# Altium footprint library Package_QFP.PcbLib: 99 footprints (part 6 of 7)
Each footprint in its own frame and in the unit in brackets; x right, y up, seen from the top. Pads: shape width x height; smd on the part's side, far side on the other; paste and mask are expansions set on the pad; w line width, h text height; cw(c..) or ccw(c..) is an arc to the next point about the centre after c.
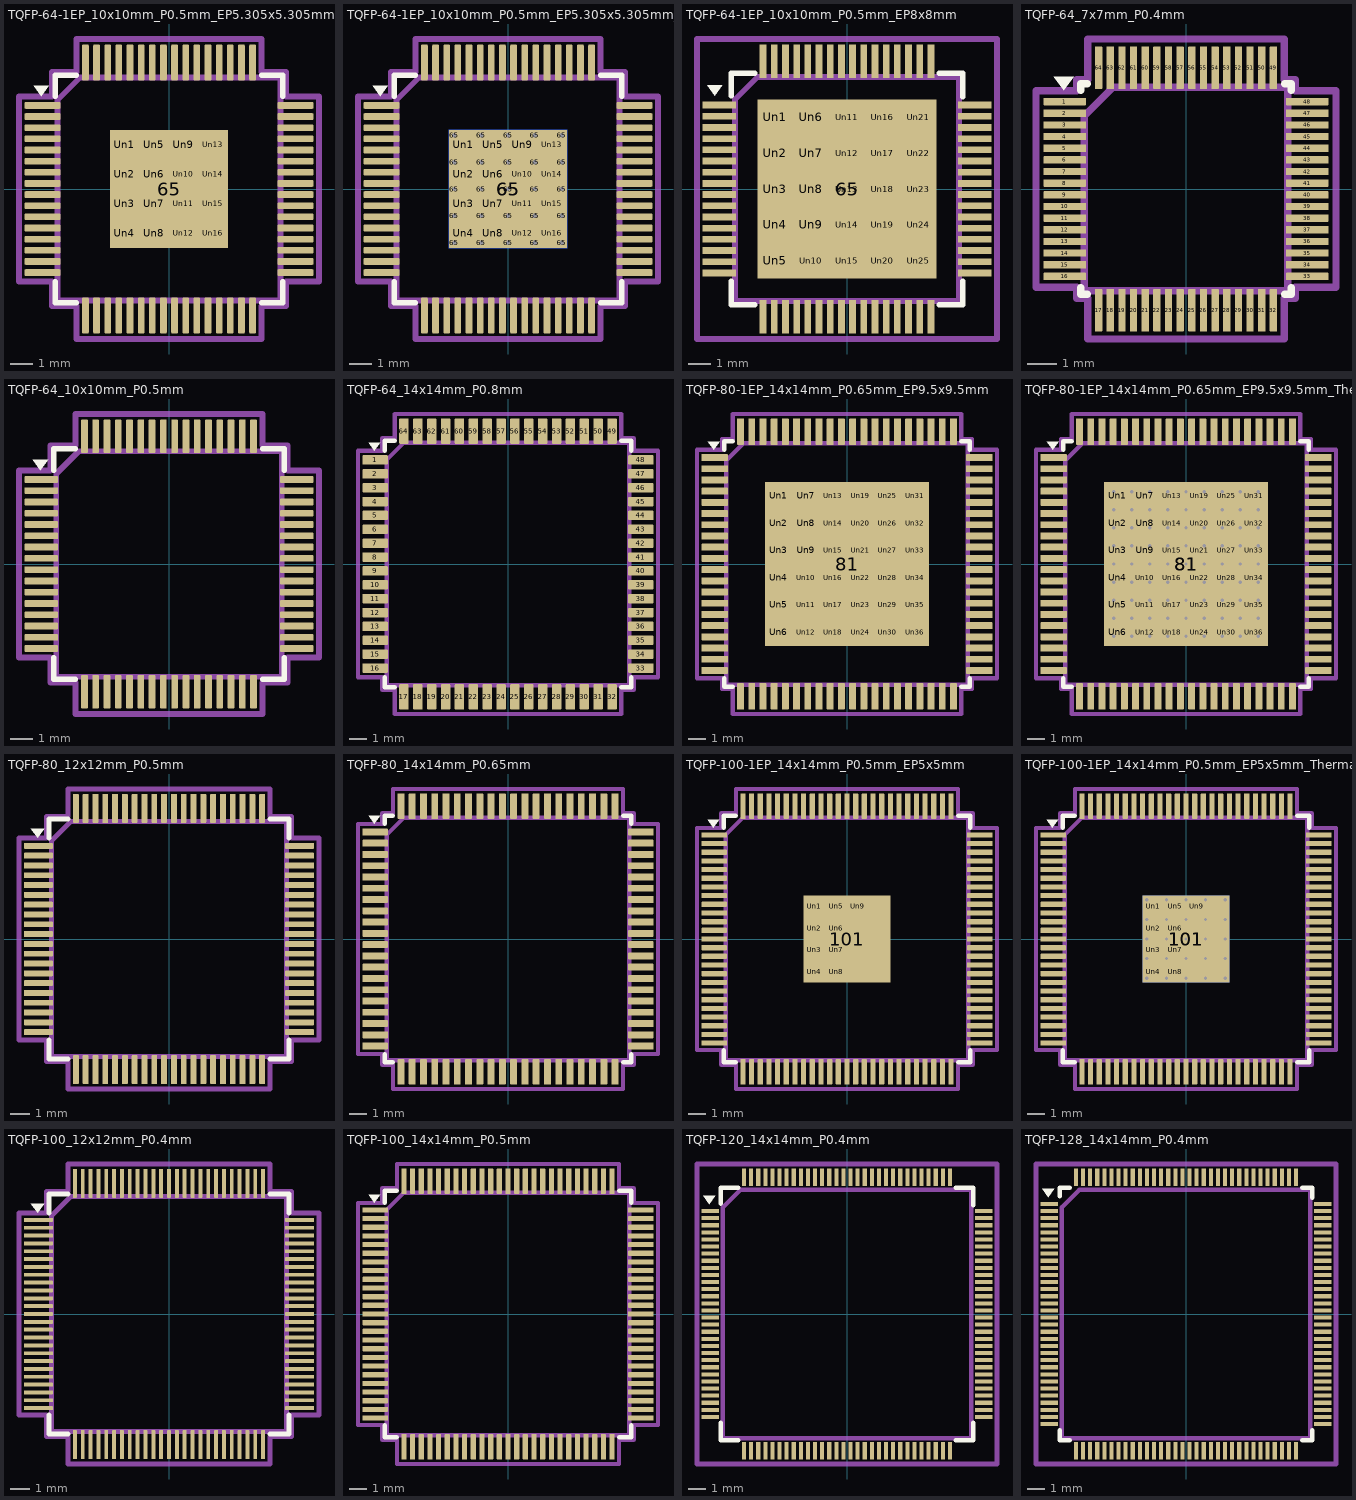
[diagram p5: the footprints below, top view; thin cyan lines are the x and y axes]

## TQFP-64-1EP_10x10mm_P0.5mm_EP5.305x5.305mm [mm]
pads (81):
  rrect25% 1.6x0.3 smd: 1(-5.675,3.75) 2(-5.675,3.25) 3(-5.675,2.75) 4(-5.675,2.25) 5(-5.675,1.75) 6(-5.675,1.25) 7(-5.675,0.75) 8(-5.675,0.25) 9(-5.675,-0.25) 10(-5.675,-0.75) 11(-5.675,-1.25) 12(-5.675,-1.75) 13(-5.675,-2.25) 14(-5.675,-2.75) 15(-5.675,-3.25) 16(-5.675,-3.75) 33(5.675,-3.75) 34(5.675,-3.25) 35(5.675,-2.75) 36(5.675,-2.25) 37(5.675,-1.75) 38(5.675,-1.25) 39(5.675,-0.75) 40(5.675,-0.25) 41(5.675,0.25) 42(5.675,0.75) 43(5.675,1.25) 44(5.675,1.75) 45(5.675,2.25) 46(5.675,2.75) 47(5.675,3.25) 48(5.675,3.75)
  rrect25% 0.3x1.6 smd: 17(-3.75,-5.675) 18(-3.25,-5.675) 19(-2.75,-5.675) 20(-2.25,-5.675) 21(-1.75,-5.675) 22(-1.25,-5.675) 23(-0.75,-5.675) 24(-0.25,-5.675) 25(0.25,-5.675) 26(0.75,-5.675) 27(1.25,-5.675) 28(1.75,-5.675) 29(2.25,-5.675) 30(2.75,-5.675) 31(3.25,-5.675) 32(3.75,-5.675) 49(3.75,5.675) 50(3.25,5.675) 51(2.75,5.675) 52(2.25,5.675) 53(1.75,5.675) 54(1.25,5.675) 55(0.75,5.675) 56(0.25,5.675) 57(-0.25,5.675) 58(-0.75,5.675) 59(-1.25,5.675) 60(-1.75,5.675) 61(-2.25,5.675) 62(-2.75,5.675) 63(-3.25,5.675) 64(-3.75,5.675)
  rect 5.305x5.305 smd: 65(0,0)
  rrect23% 1.07x1.07 on Top Paste: Un1(-1.995,1.995) Un2(-1.995,0.665) Un3(-1.995,-0.665) Un4(-1.995,-1.995) Un5(-0.665,1.995) Un6(-0.665,0.665) Un7(-0.665,-0.665) Un8(-0.665,-1.995) Un9(0.665,1.995) Un10(0.665,0.665) Un11(0.665,-0.665) Un12(0.665,-1.995) Un13(1.995,1.995) Un14(1.995,0.665) Un15(1.995,-0.665) Un16(1.995,-1.995)
F.SilkS:
  region: -5.737,4.16 -6.078,4.63 -5.397,4.63
  lines w0.254: -5.11,-4.16 -5.11,-5.11 -4.16,-5.11 ; -5.11,4.16 -5.11,5.11 -4.16,5.11 ; 4.16,-5.11 5.11,-5.11 5.11,-4.16 ; 4.16,5.11 5.11,5.11 5.11,4.16
Top Assembly:
  lines w0.254: -5,-5 5,-5 5,5 -4,5 -5,4 -5,-5
  text "'.Designator'" at -4.047,-0.84 h1
Top Courtyard:
  lines w0.254: -6.73,-4.15 -5.25,-4.15 -5.25,-5.25 -4.15,-5.25 -4.15,-6.73 4.15,-6.73 4.15,-5.25 5.25,-5.25 5.25,-4.15 6.73,-4.15 6.73,4.15 5.25,4.15 5.25,5.25 4.15,5.25 4.15,6.73 -4.15,6.73 -4.15,5.25 -5.25,5.25 -5.25,4.15 -6.73,4.15 -6.73,-4.15
Top Designator:
  text ".Designator" at -7.618,-0.508 h1.52

## TQFP-64-1EP_10x10mm_P0.5mm_EP5.305x5.305mm_ThermalVias [mm]
pads (107):
  rrect25% 1.6x0.3 smd: 1(-5.675,3.75) 2(-5.675,3.25) 3(-5.675,2.75) 4(-5.675,2.25) 5(-5.675,1.75) 6(-5.675,1.25) 7(-5.675,0.75) 8(-5.675,0.25) 9(-5.675,-0.25) 10(-5.675,-0.75) 11(-5.675,-1.25) 12(-5.675,-1.75) 13(-5.675,-2.25) 14(-5.675,-2.75) 15(-5.675,-3.25) 16(-5.675,-3.75) 33(5.675,-3.75) 34(5.675,-3.25) 35(5.675,-2.75) 36(5.675,-2.25) 37(5.675,-1.75) 38(5.675,-1.25) 39(5.675,-0.75) 40(5.675,-0.25) 41(5.675,0.25) 42(5.675,0.75) 43(5.675,1.25) 44(5.675,1.75) 45(5.675,2.25) 46(5.675,2.75) 47(5.675,3.25) 48(5.675,3.75)
  rrect25% 0.3x1.6 smd: 17(-3.75,-5.675) 18(-3.25,-5.675) 19(-2.75,-5.675) 20(-2.25,-5.675) 21(-1.75,-5.675) 22(-1.25,-5.675) 23(-0.75,-5.675) 24(-0.25,-5.675) 25(0.25,-5.675) 26(0.75,-5.675) 27(1.25,-5.675) 28(1.75,-5.675) 29(2.25,-5.675) 30(2.75,-5.675) 31(3.25,-5.675) 32(3.75,-5.675) 49(3.75,5.675) 50(3.25,5.675) 51(2.75,5.675) 52(2.25,5.675) 53(1.75,5.675) 54(1.25,5.675) 55(0.75,5.675) 56(0.25,5.675) 57(-0.25,5.675) 58(-0.75,5.675) 59(-1.25,5.675) 60(-1.75,5.675) 61(-2.25,5.675) 62(-2.75,5.675) 63(-3.25,5.675) 64(-3.75,5.675)
  round 0.5 hole 0.2: 65(-2.402,-2.402) 65(-2.402,-1.201) 65(-2.402,0) 65(-2.402,1.201) 65(-2.402,2.402) 65(-1.201,-2.402) 65(-1.201,-1.201) 65(-1.201,0) 65(-1.201,1.201) 65(-1.201,2.402) 65(0,-2.402) 65(0,-1.201) 65(0,0) 65(0,1.201) 65(0,2.402) 65(1.201,-2.402) 65(1.201,-1.201) 65(1.201,0) 65(1.201,1.201) 65(1.201,2.402) 65(2.402,-2.402) 65(2.402,-1.201) 65(2.402,0) 65(2.402,1.201) 65(2.402,2.402)
  rect 5.305x5.305 smd: 65(0,0)
  rect 5.305x5.305 smd far side: 65(0,0)
  rrect23% 1.07x1.07 on Top Paste: Un1(-1.995,1.995) Un2(-1.995,0.665) Un3(-1.995,-0.665) Un4(-1.995,-1.995) Un5(-0.665,1.995) Un6(-0.665,0.665) Un7(-0.665,-0.665) Un8(-0.665,-1.995) Un9(0.665,1.995) Un10(0.665,0.665) Un11(0.665,-0.665) Un12(0.665,-1.995) Un13(1.995,1.995) Un14(1.995,0.665) Un15(1.995,-0.665) Un16(1.995,-1.995)
F.SilkS:
  region: -5.737,4.16 -6.078,4.63 -5.397,4.63
  lines w0.254: -5.11,-4.16 -5.11,-5.11 -4.16,-5.11 ; -5.11,4.16 -5.11,5.11 -4.16,5.11 ; 4.16,-5.11 5.11,-5.11 5.11,-4.16 ; 4.16,5.11 5.11,5.11 5.11,4.16
Top Assembly:
  lines w0.254: -5,-5 5,-5 5,5 -4,5 -5,4 -5,-5
  text "'.Designator'" at -4.047,-0.84 h1
Top Courtyard:
  lines w0.254: -6.73,-4.15 -5.25,-4.15 -5.25,-5.25 -4.15,-5.25 -4.15,-6.73 4.15,-6.73 4.15,-5.25 5.25,-5.25 5.25,-4.15 6.73,-4.15 6.73,4.15 5.25,4.15 5.25,5.25 4.15,5.25 4.15,6.73 -4.15,6.73 -4.15,5.25 -5.25,5.25 -5.25,4.15 -6.73,4.15 -6.73,-4.15
Top Designator:
  text ".Designator" at -7.618,-0.508 h1.52

## TQFP-64-1EP_10x10mm_P0.5mm_EP8x8mm [mm]
pads (90):
  rect 1.5x0.3 smd: 1(-5.7,3.75) 2(-5.7,3.25) 3(-5.7,2.75) 4(-5.7,2.25) 5(-5.7,1.75) 6(-5.7,1.25) 7(-5.7,0.75) 8(-5.7,0.25) 9(-5.7,-0.25) 10(-5.7,-0.75) 11(-5.7,-1.25) 12(-5.7,-1.75) 13(-5.7,-2.25) 14(-5.7,-2.75) 15(-5.7,-3.25) 16(-5.7,-3.75) 33(5.7,-3.75) 34(5.7,-3.25) 35(5.7,-2.75) 36(5.7,-2.25) 37(5.7,-1.75) 38(5.7,-1.25) 39(5.7,-0.75) 40(5.7,-0.25) 41(5.7,0.25) 42(5.7,0.75) 43(5.7,1.25) 44(5.7,1.75) 45(5.7,2.25) 46(5.7,2.75) 47(5.7,3.25) 48(5.7,3.75)
  rect 0.3x1.5 smd: 17(-3.75,-5.7) 18(-3.25,-5.7) 19(-2.75,-5.7) 20(-2.25,-5.7) 21(-1.75,-5.7) 22(-1.25,-5.7) 23(-0.75,-5.7) 24(-0.25,-5.7) 25(0.25,-5.7) 26(0.75,-5.7) 27(1.25,-5.7) 28(1.75,-5.7) 29(2.25,-5.7) 30(2.75,-5.7) 31(3.25,-5.7) 32(3.75,-5.7) 49(3.75,5.7) 50(3.25,5.7) 51(2.75,5.7) 52(2.25,5.7) 53(1.75,5.7) 54(1.25,5.7) 55(0.75,5.7) 56(0.25,5.7) 57(-0.25,5.7) 58(-0.75,5.7) 59(-1.25,5.7) 60(-1.75,5.7) 61(-2.25,5.7) 62(-2.75,5.7) 63(-3.25,5.7) 64(-3.75,5.7)
  rect 8x8 smd: 65(0,0)
  rect 1.24x1.24 on Top Paste: Un1(-3.2,3.2) Un2(-3.2,1.6) Un3(-3.2,0) Un4(-3.2,-1.6) Un5(-3.2,-3.2) Un6(-1.6,3.2) Un7(-1.6,1.6) Un8(-1.6,0) Un9(-1.6,-1.6) Un10(-1.6,-3.2) Un11(0,3.2) Un12(0,1.6) Un13(0,0) Un14(0,-1.6) Un15(0,-3.2) Un16(1.6,3.2) Un17(1.6,1.6) Un18(1.6,0) Un19(1.6,-1.6) Un20(1.6,-3.2) Un21(3.2,3.2) Un22(3.2,1.6) Un23(3.2,0) Un24(3.2,-1.6) Un25(3.2,-3.2)
F.SilkS:
  region: -5.91,4.16 -6.25,4.63 -5.57,4.63
  lines w0.254: -5.175,-4.125 -5.175,-5.175 -4.125,-5.175 ; -5.175,4.16 -5.175,5.175 -4.125,5.175 ; 4.125,-5.175 5.175,-5.175 5.175,-4.125 ; 4.125,5.175 5.175,5.175 5.175,4.125
Top Assembly:
  lines w0.254: -5,-5 5,-5 5,5 -4,5 -5,4 -5,-5
  text "'.Designator'" at -4.047,-0.84 h1
Top Courtyard:
  lines w0.254: -6.7,-6.7 6.7,-6.7 6.7,6.7 -6.7,6.7 -6.7,-6.7
Top Designator:
  text ".Designator" at -7.618,-0.508 h1.52

## TQFP-64_7x7mm_P0.4mm [mm]
pads (64):
  rrect25% 1.475x0.25 smd: 1(-4.163,3) 2(-4.163,2.6) 3(-4.163,2.2) 4(-4.163,1.8) 5(-4.163,1.4) 6(-4.163,1) 7(-4.163,0.6) 8(-4.163,0.2) 9(-4.163,-0.2) 10(-4.163,-0.6) 11(-4.163,-1) 12(-4.163,-1.4) 13(-4.163,-1.8) 14(-4.163,-2.2) 15(-4.163,-2.6) 16(-4.163,-3) 33(4.163,-3) 34(4.163,-2.6) 35(4.163,-2.2) 36(4.163,-1.8) 37(4.163,-1.4) 38(4.163,-1) 39(4.163,-0.6) 40(4.163,-0.2) 41(4.163,0.2) 42(4.163,0.6) 43(4.163,1) 44(4.163,1.4) 45(4.163,1.8) 46(4.163,2.2) 47(4.163,2.6) 48(4.163,3)
  rrect25% 0.25x1.475 smd: 17(-3,-4.163) 18(-2.6,-4.163) 19(-2.2,-4.163) 20(-1.8,-4.163) 21(-1.4,-4.163) 22(-1,-4.163) 23(-0.6,-4.163) 24(-0.2,-4.163) 25(0.2,-4.163) 26(0.6,-4.163) 27(1,-4.163) 28(1.4,-4.163) 29(1.8,-4.163) 30(2.2,-4.163) 31(2.6,-4.163) 32(3,-4.163) 49(3,4.163) 50(2.6,4.163) 51(2.2,4.163) 52(1.8,4.163) 53(1.4,4.163) 54(1,4.163) 55(0.6,4.163) 56(0.2,4.163) 57(-0.2,4.163) 58(-0.6,4.163) 59(-1,4.163) 60(-1.4,4.163) 61(-1.8,4.163) 62(-2.2,4.163) 63(-2.6,4.163) 64(-3,4.163)
F.SilkS:
  region: -4.2,3.385 -4.54,3.855 -3.86,3.855
  lines w0.254: -3.61,-3.385 -3.61,-3.61 -3.385,-3.61 ; -3.61,3.385 -3.61,3.61 -3.385,3.61 ; 3.385,-3.61 3.61,-3.61 3.61,-3.385 ; 3.385,3.61 3.61,3.61 3.61,3.385
Top Assembly:
  lines w0.254: -3.5,-3.5 3.5,-3.5 3.5,3.5 -2.5,3.5 -3.5,2.5 -3.5,-3.5
  text "'.Designator'" at -4.047,-0.84 h1
Top Courtyard:
  lines w0.254: -5.15,-3.38 -3.75,-3.38 -3.75,-3.75 -3.38,-3.75 -3.38,-5.15 3.38,-5.15 3.38,-3.75 3.75,-3.75 3.75,-3.38 5.15,-3.38 5.15,3.38 3.75,3.38 3.75,3.75 3.38,3.75 3.38,5.15 -3.38,5.15 -3.38,3.75 -3.75,3.75 -3.75,3.38 -5.15,3.38 -5.15,-3.38
Top Designator:
  text ".Designator" at -7.618,-0.508 h1.52

## TQFP-64_10x10mm_P0.5mm [mm]
pads (64):
  rrect25% 1.475x0.3 smd: 1(-5.663,3.75) 2(-5.663,3.25) 3(-5.663,2.75) 4(-5.663,2.25) 5(-5.663,1.75) 6(-5.663,1.25) 7(-5.663,0.75) 8(-5.663,0.25) 9(-5.663,-0.25) 10(-5.663,-0.75) 11(-5.663,-1.25) 12(-5.663,-1.75) 13(-5.663,-2.25) 14(-5.663,-2.75) 15(-5.663,-3.25) 16(-5.663,-3.75) 33(5.663,-3.75) 34(5.663,-3.25) 35(5.663,-2.75) 36(5.663,-2.25) 37(5.663,-1.75) 38(5.663,-1.25) 39(5.663,-0.75) 40(5.663,-0.25) 41(5.663,0.25) 42(5.663,0.75) 43(5.663,1.25) 44(5.663,1.75) 45(5.663,2.25) 46(5.663,2.75) 47(5.663,3.25) 48(5.663,3.75)
  rrect25% 0.3x1.475 smd: 17(-3.75,-5.663) 18(-3.25,-5.663) 19(-2.75,-5.663) 20(-2.25,-5.663) 21(-1.75,-5.663) 22(-1.25,-5.663) 23(-0.75,-5.663) 24(-0.25,-5.663) 25(0.25,-5.663) 26(0.75,-5.663) 27(1.25,-5.663) 28(1.75,-5.663) 29(2.25,-5.663) 30(2.75,-5.663) 31(3.25,-5.663) 32(3.75,-5.663) 49(3.75,5.663) 50(3.25,5.663) 51(2.75,5.663) 52(2.25,5.663) 53(1.75,5.663) 54(1.25,5.663) 55(0.75,5.663) 56(0.25,5.663) 57(-0.25,5.663) 58(-0.75,5.663) 59(-1.25,5.663) 60(-1.75,5.663) 61(-2.25,5.663) 62(-2.75,5.663) 63(-3.25,5.663) 64(-3.75,5.663)
F.SilkS:
  region: -5.7,4.16 -6.04,4.63 -5.36,4.63
  lines w0.254: -5.11,-4.16 -5.11,-5.11 -4.16,-5.11 ; -5.11,4.16 -5.11,5.11 -4.16,5.11 ; 4.16,-5.11 5.11,-5.11 5.11,-4.16 ; 4.16,5.11 5.11,5.11 5.11,4.16
Top Assembly:
  lines w0.254: -5,-5 5,-5 5,5 -4,5 -5,4 -5,-5
  text "'.Designator'" at -4.047,-0.84 h1
Top Courtyard:
  lines w0.254: -6.65,-4.15 -5.25,-4.15 -5.25,-5.25 -4.15,-5.25 -4.15,-6.65 4.15,-6.65 4.15,-5.25 5.25,-5.25 5.25,-4.15 6.65,-4.15 6.65,4.15 5.25,4.15 5.25,5.25 4.15,5.25 4.15,6.65 -4.15,6.65 -4.15,5.25 -5.25,5.25 -5.25,4.15 -6.65,4.15 -6.65,-4.15
Top Designator:
  text ".Designator" at -7.618,-0.508 h1.52

## TQFP-64_14x14mm_P0.8mm [mm]
pads (64):
  rrect25% 1.475x0.55 smd: 1(-7.662,6) 2(-7.662,5.2) 3(-7.662,4.4) 4(-7.662,3.6) 5(-7.662,2.8) 6(-7.662,2) 7(-7.662,1.2) 8(-7.662,0.4) 9(-7.662,-0.4) 10(-7.662,-1.2) 11(-7.662,-2) 12(-7.662,-2.8) 13(-7.662,-3.6) 14(-7.662,-4.4) 15(-7.662,-5.2) 16(-7.662,-6) 33(7.662,-6) 34(7.662,-5.2) 35(7.662,-4.4) 36(7.662,-3.6) 37(7.662,-2.8) 38(7.662,-2) 39(7.662,-1.2) 40(7.662,-0.4) 41(7.662,0.4) 42(7.662,1.2) 43(7.662,2) 44(7.662,2.8) 45(7.662,3.6) 46(7.662,4.4) 47(7.662,5.2) 48(7.662,6)
  rrect25% 0.55x1.475 smd: 17(-6,-7.662) 18(-5.2,-7.662) 19(-4.4,-7.662) 20(-3.6,-7.662) 21(-2.8,-7.662) 22(-2,-7.662) 23(-1.2,-7.662) 24(-0.4,-7.662) 25(0.4,-7.662) 26(1.2,-7.662) 27(2,-7.662) 28(2.8,-7.662) 29(3.6,-7.662) 30(4.4,-7.662) 31(5.2,-7.662) 32(6,-7.662) 49(6,7.662) 50(5.2,7.662) 51(4.4,7.662) 52(3.6,7.662) 53(2.8,7.662) 54(2,7.662) 55(1.2,7.662) 56(0.4,7.662) 57(-0.4,7.662) 58(-1.2,7.662) 59(-2,7.662) 60(-2.8,7.662) 61(-3.6,7.662) 62(-4.4,7.662) 63(-5.2,7.662) 64(-6,7.662)
F.SilkS:
  region: -7.7,6.535 -8.04,7.005 -7.36,7.005
  lines w0.254: -7.11,-6.535 -7.11,-7.11 -6.535,-7.11 ; -7.11,6.535 -7.11,7.11 -6.535,7.11 ; 6.535,-7.11 7.11,-7.11 7.11,-6.535 ; 6.535,7.11 7.11,7.11 7.11,6.535
Top Assembly:
  lines w0.254: -7,-7 7,-7 7,7 -6,7 -7,6 -7,-7
  text "'.Designator'" at -4.047,-0.84 h1
Top Courtyard:
  lines w0.254: -8.65,-6.53 -7.25,-6.53 -7.25,-7.25 -6.53,-7.25 -6.53,-8.65 6.53,-8.65 6.53,-7.25 7.25,-7.25 7.25,-6.53 8.65,-6.53 8.65,6.53 7.25,6.53 7.25,7.25 6.53,7.25 6.53,8.65 -6.53,8.65 -6.53,7.25 -7.25,7.25 -7.25,6.53 -8.65,6.53 -8.65,-6.53
Top Designator:
  text ".Designator" at -7.618,-0.508 h1.52

## TQFP-80-1EP_14x14mm_P0.65mm_EP9.5x9.5mm [mm]
pads (117):
  rrect25% 1.55x0.4 smd: 1(-7.675,6.175) 2(-7.675,5.525) 3(-7.675,4.875) 4(-7.675,4.225) 5(-7.675,3.575) 6(-7.675,2.925) 7(-7.675,2.275) 8(-7.675,1.625) 9(-7.675,0.975) 10(-7.675,0.325) 11(-7.675,-0.325) 12(-7.675,-0.975) 13(-7.675,-1.625) 14(-7.675,-2.275) 15(-7.675,-2.925) 16(-7.675,-3.575) 17(-7.675,-4.225) 18(-7.675,-4.875) 19(-7.675,-5.525) 20(-7.675,-6.175) 41(7.675,-6.175) 42(7.675,-5.525) 43(7.675,-4.875) 44(7.675,-4.225) 45(7.675,-3.575) 46(7.675,-2.925) 47(7.675,-2.275) 48(7.675,-1.625) 49(7.675,-0.975) 50(7.675,-0.325) 51(7.675,0.325) 52(7.675,0.975) 53(7.675,1.625) 54(7.675,2.275) 55(7.675,2.925) 56(7.675,3.575) 57(7.675,4.225) 58(7.675,4.875) 59(7.675,5.525) 60(7.675,6.175)
  rrect25% 0.4x1.55 smd: 21(-6.175,-7.675) 22(-5.525,-7.675) 23(-4.875,-7.675) 24(-4.225,-7.675) 25(-3.575,-7.675) 26(-2.925,-7.675) 27(-2.275,-7.675) 28(-1.625,-7.675) 29(-0.975,-7.675) 30(-0.325,-7.675) 31(0.325,-7.675) 32(0.975,-7.675) 33(1.625,-7.675) 34(2.275,-7.675) 35(2.925,-7.675) 36(3.575,-7.675) 37(4.225,-7.675) 38(4.875,-7.675) 39(5.525,-7.675) 40(6.175,-7.675) 61(6.175,7.675) 62(5.525,7.675) 63(4.875,7.675) 64(4.225,7.675) 65(3.575,7.675) 66(2.925,7.675) 67(2.275,7.675) 68(1.625,7.675) 69(0.975,7.675) 70(0.325,7.675) 71(-0.325,7.675) 72(-0.975,7.675) 73(-1.625,7.675) 74(-2.275,7.675) 75(-2.925,7.675) 76(-3.575,7.675) 77(-4.225,7.675) 78(-4.875,7.675) 79(-5.525,7.675) 80(-6.175,7.675)
  rect 9.5x9.5 smd: 81(0,0)
  rrect20% 1.28x1.28 on Top Paste: Un1(-3.95,3.95) Un2(-3.95,2.37) Un3(-3.95,0.79) Un4(-3.95,-0.79) Un5(-3.95,-2.37) Un6(-3.95,-3.95) Un7(-2.37,3.95) Un8(-2.37,2.37) Un9(-2.37,0.79) Un10(-2.37,-0.79) Un11(-2.37,-2.37) Un12(-2.37,-3.95) Un13(-0.79,3.95) Un14(-0.79,2.37) Un15(-0.79,0.79) Un16(-0.79,-0.79) Un17(-0.79,-2.37) Un18(-0.79,-3.95) Un19(0.79,3.95) Un20(0.79,2.37) Un21(0.79,0.79) Un22(0.79,-0.79) Un23(0.79,-2.37) Un24(0.79,-3.95) Un25(2.37,3.95) Un26(2.37,2.37) Un27(2.37,0.79) Un28(2.37,-0.79) Un29(2.37,-2.37) Un30(2.37,-3.95) Un31(3.95,3.95) Un32(3.95,2.37) Un33(3.95,0.79) Un34(3.95,-0.79) Un35(3.95,-2.37) Un36(3.95,-3.95)
F.SilkS:
  region: -7.725,6.635 -8.065,7.105 -7.385,7.105
  lines w0.254: -7.11,-6.635 -7.11,-7.11 -6.635,-7.11 ; -7.11,6.635 -7.11,7.11 -6.635,7.11 ; 6.635,-7.11 7.11,-7.11 7.11,-6.635 ; 6.635,7.11 7.11,7.11 7.11,6.635
Top Assembly:
  lines w0.254: -7,-7 7,-7 7,7 -6,7 -7,6 -7,-7
  text "'.Designator'" at -4.047,-0.84 h1
Top Courtyard:
  lines w0.254: -8.7,-6.63 -7.25,-6.63 -7.25,-7.25 -6.63,-7.25 -6.63,-8.7 6.63,-8.7 6.63,-7.25 7.25,-7.25 7.25,-6.63 8.7,-6.63 8.7,6.63 7.25,6.63 7.25,7.25 6.63,7.25 6.63,8.7 -6.63,8.7 -6.63,7.25 -7.25,7.25 -7.25,6.63 -8.7,6.63 -8.7,-6.63
Top Designator:
  text ".Designator" at -7.618,-0.508 h1.52

## TQFP-80-1EP_14x14mm_P0.65mm_EP9.5x9.5mm_ThermalVias [mm]
pads (199):
  rrect25% 1.55x0.4 smd: 1(-7.675,6.175) 2(-7.675,5.525) 3(-7.675,4.875) 4(-7.675,4.225) 5(-7.675,3.575) 6(-7.675,2.925) 7(-7.675,2.275) 8(-7.675,1.625) 9(-7.675,0.975) 10(-7.675,0.325) 11(-7.675,-0.325) 12(-7.675,-0.975) 13(-7.675,-1.625) 14(-7.675,-2.275) 15(-7.675,-2.925) 16(-7.675,-3.575) 17(-7.675,-4.225) 18(-7.675,-4.875) 19(-7.675,-5.525) 20(-7.675,-6.175) 41(7.675,-6.175) 42(7.675,-5.525) 43(7.675,-4.875) 44(7.675,-4.225) 45(7.675,-3.575) 46(7.675,-2.925) 47(7.675,-2.275) 48(7.675,-1.625) 49(7.675,-0.975) 50(7.675,-0.325) 51(7.675,0.325) 52(7.675,0.975) 53(7.675,1.625) 54(7.675,2.275) 55(7.675,2.925) 56(7.675,3.575) 57(7.675,4.225) 58(7.675,4.875) 59(7.675,5.525) 60(7.675,6.175)
  rrect25% 0.4x1.55 smd: 21(-6.175,-7.675) 22(-5.525,-7.675) 23(-4.875,-7.675) 24(-4.225,-7.675) 25(-3.575,-7.675) 26(-2.925,-7.675) 27(-2.275,-7.675) 28(-1.625,-7.675) 29(-0.975,-7.675) 30(-0.325,-7.675) 31(0.325,-7.675) 32(0.975,-7.675) 33(1.625,-7.675) 34(2.275,-7.675) 35(2.925,-7.675) 36(3.575,-7.675) 37(4.225,-7.675) 38(4.875,-7.675) 39(5.525,-7.675) 40(6.175,-7.675) 61(6.175,7.675) 62(5.525,7.675) 63(4.875,7.675) 64(4.225,7.675) 65(3.575,7.675) 66(2.925,7.675) 67(2.275,7.675) 68(1.625,7.675) 69(0.975,7.675) 70(0.325,7.675) 71(-0.325,7.675) 72(-0.975,7.675) 73(-1.625,7.675) 74(-2.275,7.675) 75(-2.925,7.675) 76(-3.575,7.675) 77(-4.225,7.675) 78(-4.875,7.675) 79(-5.525,7.675) 80(-6.175,7.675)
  round 0.5 hole 0.2: 81(-4.2,-4.2) 81(-4.2,-3.15) 81(-4.2,-2.1) 81(-4.2,-1.05) 81(-4.2,0) 81(-4.2,1.05) 81(-4.2,2.1) 81(-4.2,3.15) 81(-4.2,4.2) 81(-3.15,-4.2) 81(-3.15,-3.15) 81(-3.15,-2.1) 81(-3.15,-1.05) 81(-3.15,0) 81(-3.15,1.05) 81(-3.15,2.1) 81(-3.15,3.15) 81(-3.15,4.2) 81(-2.1,-4.2) 81(-2.1,-3.15) 81(-2.1,-2.1) 81(-2.1,-1.05) 81(-2.1,0) 81(-2.1,1.05) 81(-2.1,2.1) 81(-2.1,3.15) 81(-2.1,4.2) 81(-1.05,-4.2) 81(-1.05,-3.15) 81(-1.05,-2.1) 81(-1.05,-1.05) 81(-1.05,0) 81(-1.05,1.05) 81(-1.05,2.1) 81(-1.05,3.15) 81(-1.05,4.2) 81(0,-4.2) 81(0,-3.15) 81(0,-2.1) 81(0,-1.05) 81(0,0) 81(0,1.05) 81(0,2.1) 81(0,3.15) 81(0,4.2) 81(1.05,-4.2) 81(1.05,-3.15) 81(1.05,-2.1) 81(1.05,-1.05) 81(1.05,0) 81(1.05,1.05) 81(1.05,2.1) 81(1.05,3.15) 81(1.05,4.2) 81(2.1,-4.2) 81(2.1,-3.15) 81(2.1,-2.1) 81(2.1,-1.05) 81(2.1,0) 81(2.1,1.05) 81(2.1,2.1) 81(2.1,3.15) 81(2.1,4.2) 81(3.15,-4.2) 81(3.15,-3.15) 81(3.15,-2.1) 81(3.15,-1.05) 81(3.15,0) 81(3.15,1.05) 81(3.15,2.1) 81(3.15,3.15) 81(3.15,4.2) 81(4.2,-4.2) 81(4.2,-3.15) 81(4.2,-2.1) 81(4.2,-1.05) 81(4.2,0) 81(4.2,1.05) 81(4.2,2.1) 81(4.2,3.15) 81(4.2,4.2)
  rect 9.5x9.5 smd: 81(0,0)
  rect 8.9x8.9 smd far side: 81(0,0)
  rrect20% 1.28x1.28 on Top Paste: Un1(-3.95,3.95) Un2(-3.95,2.37) Un3(-3.95,0.79) Un4(-3.95,-0.79) Un5(-3.95,-2.37) Un6(-3.95,-3.95) Un7(-2.37,3.95) Un8(-2.37,2.37) Un9(-2.37,0.79) Un10(-2.37,-0.79) Un11(-2.37,-2.37) Un12(-2.37,-3.95) Un13(-0.79,3.95) Un14(-0.79,2.37) Un15(-0.79,0.79) Un16(-0.79,-0.79) Un17(-0.79,-2.37) Un18(-0.79,-3.95) Un19(0.79,3.95) Un20(0.79,2.37) Un21(0.79,0.79) Un22(0.79,-0.79) Un23(0.79,-2.37) Un24(0.79,-3.95) Un25(2.37,3.95) Un26(2.37,2.37) Un27(2.37,0.79) Un28(2.37,-0.79) Un29(2.37,-2.37) Un30(2.37,-3.95) Un31(3.95,3.95) Un32(3.95,2.37) Un33(3.95,0.79) Un34(3.95,-0.79) Un35(3.95,-2.37) Un36(3.95,-3.95)
F.SilkS:
  region: -7.725,6.635 -8.065,7.105 -7.385,7.105
  lines w0.254: -7.11,-6.635 -7.11,-7.11 -6.635,-7.11 ; -7.11,6.635 -7.11,7.11 -6.635,7.11 ; 6.635,-7.11 7.11,-7.11 7.11,-6.635 ; 6.635,7.11 7.11,7.11 7.11,6.635
Top Assembly:
  lines w0.254: -7,-7 7,-7 7,7 -6,7 -7,6 -7,-7
  text "'.Designator'" at -4.047,-0.84 h1
Top Courtyard:
  lines w0.254: -8.7,-6.63 -7.25,-6.63 -7.25,-7.25 -6.63,-7.25 -6.63,-8.7 6.63,-8.7 6.63,-7.25 7.25,-7.25 7.25,-6.63 8.7,-6.63 8.7,6.63 7.25,6.63 7.25,7.25 6.63,7.25 6.63,8.7 -6.63,8.7 -6.63,7.25 -7.25,7.25 -7.25,6.63 -8.7,6.63 -8.7,-6.63
Top Designator:
  text ".Designator" at -7.618,-0.508 h1.52

## TQFP-80_12x12mm_P0.5mm [mm]
pads (80):
  rrect25% 1.475x0.3 smd: 1(-6.662,4.75) 2(-6.662,4.25) 3(-6.662,3.75) 4(-6.662,3.25) 5(-6.662,2.75) 6(-6.662,2.25) 7(-6.662,1.75) 8(-6.662,1.25) 9(-6.662,0.75) 10(-6.662,0.25) 11(-6.662,-0.25) 12(-6.662,-0.75) 13(-6.662,-1.25) 14(-6.662,-1.75) 15(-6.662,-2.25) 16(-6.662,-2.75) 17(-6.662,-3.25) 18(-6.662,-3.75) 19(-6.662,-4.25) 20(-6.662,-4.75) 41(6.662,-4.75) 42(6.662,-4.25) 43(6.662,-3.75) 44(6.662,-3.25) 45(6.662,-2.75) 46(6.662,-2.25) 47(6.662,-1.75) 48(6.662,-1.25) 49(6.662,-0.75) 50(6.662,-0.25) 51(6.662,0.25) 52(6.662,0.75) 53(6.662,1.25) 54(6.662,1.75) 55(6.662,2.25) 56(6.662,2.75) 57(6.662,3.25) 58(6.662,3.75) 59(6.662,4.25) 60(6.662,4.75)
  rrect25% 0.3x1.475 smd: 21(-4.75,-6.662) 22(-4.25,-6.662) 23(-3.75,-6.662) 24(-3.25,-6.662) 25(-2.75,-6.662) 26(-2.25,-6.662) 27(-1.75,-6.662) 28(-1.25,-6.662) 29(-0.75,-6.662) 30(-0.25,-6.662) 31(0.25,-6.662) 32(0.75,-6.662) 33(1.25,-6.662) 34(1.75,-6.662) 35(2.25,-6.662) 36(2.75,-6.662) 37(3.25,-6.662) 38(3.75,-6.662) 39(4.25,-6.662) 40(4.75,-6.662) 61(4.75,6.662) 62(4.25,6.662) 63(3.75,6.662) 64(3.25,6.662) 65(2.75,6.662) 66(2.25,6.662) 67(1.75,6.662) 68(1.25,6.662) 69(0.75,6.662) 70(0.25,6.662) 71(-0.25,6.662) 72(-0.75,6.662) 73(-1.25,6.662) 74(-1.75,6.662) 75(-2.25,6.662) 76(-2.75,6.662) 77(-3.25,6.662) 78(-3.75,6.662) 79(-4.25,6.662) 80(-4.75,6.662)
F.SilkS:
  region: -6.7,5.16 -7.04,5.63 -6.36,5.63
  lines w0.254: -6.11,-5.16 -6.11,-6.11 -5.16,-6.11 ; -6.11,5.16 -6.11,6.11 -5.16,6.11 ; 5.16,-6.11 6.11,-6.11 6.11,-5.16 ; 5.16,6.11 6.11,6.11 6.11,5.16
Top Assembly:
  lines w0.254: -6,-6 6,-6 6,6 -5,6 -6,5 -6,-6
  text "'.Designator'" at -4.047,-0.84 h1
Top Courtyard:
  lines w0.254: -7.65,-5.15 -6.25,-5.15 -6.25,-6.25 -5.15,-6.25 -5.15,-7.65 5.15,-7.65 5.15,-6.25 6.25,-6.25 6.25,-5.15 7.65,-5.15 7.65,5.15 6.25,5.15 6.25,6.25 5.15,6.25 5.15,7.65 -5.15,7.65 -5.15,6.25 -6.25,6.25 -6.25,5.15 -7.65,5.15 -7.65,-5.15
Top Designator:
  text ".Designator" at -7.618,-0.508 h1.52

## TQFP-80_14x14mm_P0.65mm [mm]
pads (80):
  rrect25% 1.475x0.4 smd: 1(-7.662,6.175) 2(-7.662,5.525) 3(-7.662,4.875) 4(-7.662,4.225) 5(-7.662,3.575) 6(-7.662,2.925) 7(-7.662,2.275) 8(-7.662,1.625) 9(-7.662,0.975) 10(-7.662,0.325) 11(-7.662,-0.325) 12(-7.662,-0.975) 13(-7.662,-1.625) 14(-7.662,-2.275) 15(-7.662,-2.925) 16(-7.662,-3.575) 17(-7.662,-4.225) 18(-7.662,-4.875) 19(-7.662,-5.525) 20(-7.662,-6.175) 41(7.662,-6.175) 42(7.662,-5.525) 43(7.662,-4.875) 44(7.662,-4.225) 45(7.662,-3.575) 46(7.662,-2.925) 47(7.662,-2.275) 48(7.662,-1.625) 49(7.662,-0.975) 50(7.662,-0.325) 51(7.662,0.325) 52(7.662,0.975) 53(7.662,1.625) 54(7.662,2.275) 55(7.662,2.925) 56(7.662,3.575) 57(7.662,4.225) 58(7.662,4.875) 59(7.662,5.525) 60(7.662,6.175)
  rrect25% 0.4x1.475 smd: 21(-6.175,-7.662) 22(-5.525,-7.662) 23(-4.875,-7.662) 24(-4.225,-7.662) 25(-3.575,-7.662) 26(-2.925,-7.662) 27(-2.275,-7.662) 28(-1.625,-7.662) 29(-0.975,-7.662) 30(-0.325,-7.662) 31(0.325,-7.662) 32(0.975,-7.662) 33(1.625,-7.662) 34(2.275,-7.662) 35(2.925,-7.662) 36(3.575,-7.662) 37(4.225,-7.662) 38(4.875,-7.662) 39(5.525,-7.662) 40(6.175,-7.662) 61(6.175,7.662) 62(5.525,7.662) 63(4.875,7.662) 64(4.225,7.662) 65(3.575,7.662) 66(2.925,7.662) 67(2.275,7.662) 68(1.625,7.662) 69(0.975,7.662) 70(0.325,7.662) 71(-0.325,7.662) 72(-0.975,7.662) 73(-1.625,7.662) 74(-2.275,7.662) 75(-2.925,7.662) 76(-3.575,7.662) 77(-4.225,7.662) 78(-4.875,7.662) 79(-5.525,7.662) 80(-6.175,7.662)
F.SilkS:
  region: -7.7,6.635 -8.04,7.105 -7.36,7.105
  lines w0.254: -7.11,-6.635 -7.11,-7.11 -6.635,-7.11 ; -7.11,6.635 -7.11,7.11 -6.635,7.11 ; 6.635,-7.11 7.11,-7.11 7.11,-6.635 ; 6.635,7.11 7.11,7.11 7.11,6.635
Top Assembly:
  lines w0.254: -7,-7 7,-7 7,7 -6,7 -7,6 -7,-7
  text "'.Designator'" at -4.047,-0.84 h1
Top Courtyard:
  lines w0.254: -8.65,-6.63 -7.25,-6.63 -7.25,-7.25 -6.63,-7.25 -6.63,-8.65 6.63,-8.65 6.63,-7.25 7.25,-7.25 7.25,-6.63 8.65,-6.63 8.65,6.63 7.25,6.63 7.25,7.25 6.63,7.25 6.63,8.65 -6.63,8.65 -6.63,7.25 -7.25,7.25 -7.25,6.63 -8.65,6.63 -8.65,-6.63
Top Designator:
  text ".Designator" at -7.618,-0.508 h1.52

## TQFP-100-1EP_14x14mm_P0.5mm_EP5x5mm [mm]
pads (117):
  rrect25% 1.475x0.3 smd: 1(-7.662,6) 2(-7.662,5.5) 3(-7.662,5) 4(-7.662,4.5) 5(-7.662,4) 6(-7.662,3.5) 7(-7.662,3) 8(-7.662,2.5) 9(-7.662,2) 10(-7.662,1.5) 11(-7.662,1) 12(-7.662,0.5) 13(-7.662,0) 14(-7.662,-0.5) 15(-7.662,-1) 16(-7.662,-1.5) 17(-7.662,-2) 18(-7.662,-2.5) 19(-7.662,-3) 20(-7.662,-3.5) 21(-7.662,-4) 22(-7.662,-4.5) 23(-7.662,-5) 24(-7.662,-5.5) 25(-7.662,-6) 51(7.662,-6) 52(7.662,-5.5) 53(7.662,-5) 54(7.662,-4.5) 55(7.662,-4) 56(7.662,-3.5) 57(7.662,-3) 58(7.662,-2.5) 59(7.662,-2) 60(7.662,-1.5) 61(7.662,-1) 62(7.662,-0.5) 63(7.662,0) 64(7.662,0.5) 65(7.662,1) 66(7.662,1.5) 67(7.662,2) 68(7.662,2.5) 69(7.662,3) 70(7.662,3.5) 71(7.662,4) 72(7.662,4.5) 73(7.662,5) 74(7.662,5.5) 75(7.662,6)
  rrect25% 0.3x1.475 smd: 26(-6,-7.662) 27(-5.5,-7.662) 28(-5,-7.662) 29(-4.5,-7.662) 30(-4,-7.662) 31(-3.5,-7.662) 32(-3,-7.662) 33(-2.5,-7.662) 34(-2,-7.662) 35(-1.5,-7.662) 36(-1,-7.662) 37(-0.5,-7.662) 38(0,-7.662) 39(0.5,-7.662) 40(1,-7.662) 41(1.5,-7.662) 42(2,-7.662) 43(2.5,-7.662) 44(3,-7.662) 45(3.5,-7.662) 46(4,-7.662) 47(4.5,-7.662) 48(5,-7.662) 49(5.5,-7.662) 50(6,-7.662) 76(6,7.662) 77(5.5,7.662) 78(5,7.662) 79(4.5,7.662) 80(4,7.662) 81(3.5,7.662) 82(3,7.662) 83(2.5,7.662) 84(2,7.662) 85(1.5,7.662) 86(1,7.662) 87(0.5,7.662) 88(0,7.662) 89(-0.5,7.662) 90(-1,7.662) 91(-1.5,7.662) 92(-2,7.662) 93(-2.5,7.662) 94(-3,7.662) 95(-3.5,7.662) 96(-4,7.662) 97(-4.5,7.662) 98(-5,7.662) 99(-5.5,7.662) 100(-6,7.662)
  rect 5x5 smd: 101(0,0)
  rrect25% 1.01x1.01 on Top Paste: Un1(-1.875,1.875) Un2(-1.875,0.625) Un3(-1.875,-0.625) Un4(-1.875,-1.875) Un5(-0.625,1.875) Un6(-0.625,0.625) Un7(-0.625,-0.625) Un8(-0.625,-1.875) Un9(0.625,1.875) Un10(0.625,0.625) Un11(0.625,-0.625) Un12(0.625,-1.875) Un13(1.875,1.875) Un14(1.875,0.625) Un15(1.875,-0.625) Un16(1.875,-1.875)
F.SilkS:
  region: -7.7,6.41 -8.04,6.88 -7.36,6.88
  lines w0.254: -7.11,-6.41 -7.11,-7.11 -6.41,-7.11 ; -7.11,6.41 -7.11,7.11 -6.41,7.11 ; 6.41,-7.11 7.11,-7.11 7.11,-6.41 ; 6.41,7.11 7.11,7.11 7.11,6.41
Top Assembly:
  lines w0.254: -7,-7 7,-7 7,7 -6,7 -7,6 -7,-7
  text "'.Designator'" at -4.047,-0.84 h1
Top Courtyard:
  lines w0.254: -8.65,-6.4 -7.25,-6.4 -7.25,-7.25 -6.4,-7.25 -6.4,-8.65 6.4,-8.65 6.4,-7.25 7.25,-7.25 7.25,-6.4 8.65,-6.4 8.65,6.4 7.25,6.4 7.25,7.25 6.4,7.25 6.4,8.65 -6.4,8.65 -6.4,7.25 -7.25,7.25 -7.25,6.4 -8.65,6.4 -8.65,-6.4
Top Designator:
  text ".Designator" at -7.618,-0.508 h1.52

## TQFP-100-1EP_14x14mm_P0.5mm_EP5x5mm_ThermalVias [mm]
pads (143):
  rrect25% 1.475x0.3 smd: 1(-7.662,6) 2(-7.662,5.5) 3(-7.662,5) 4(-7.662,4.5) 5(-7.662,4) 6(-7.662,3.5) 7(-7.662,3) 8(-7.662,2.5) 9(-7.662,2) 10(-7.662,1.5) 11(-7.662,1) 12(-7.662,0.5) 13(-7.662,0) 14(-7.662,-0.5) 15(-7.662,-1) 16(-7.662,-1.5) 17(-7.662,-2) 18(-7.662,-2.5) 19(-7.662,-3) 20(-7.662,-3.5) 21(-7.662,-4) 22(-7.662,-4.5) 23(-7.662,-5) 24(-7.662,-5.5) 25(-7.662,-6) 51(7.662,-6) 52(7.662,-5.5) 53(7.662,-5) 54(7.662,-4.5) 55(7.662,-4) 56(7.662,-3.5) 57(7.662,-3) 58(7.662,-2.5) 59(7.662,-2) 60(7.662,-1.5) 61(7.662,-1) 62(7.662,-0.5) 63(7.662,0) 64(7.662,0.5) 65(7.662,1) 66(7.662,1.5) 67(7.662,2) 68(7.662,2.5) 69(7.662,3) 70(7.662,3.5) 71(7.662,4) 72(7.662,4.5) 73(7.662,5) 74(7.662,5.5) 75(7.662,6)
  rrect25% 0.3x1.475 smd: 26(-6,-7.662) 27(-5.5,-7.662) 28(-5,-7.662) 29(-4.5,-7.662) 30(-4,-7.662) 31(-3.5,-7.662) 32(-3,-7.662) 33(-2.5,-7.662) 34(-2,-7.662) 35(-1.5,-7.662) 36(-1,-7.662) 37(-0.5,-7.662) 38(0,-7.662) 39(0.5,-7.662) 40(1,-7.662) 41(1.5,-7.662) 42(2,-7.662) 43(2.5,-7.662) 44(3,-7.662) 45(3.5,-7.662) 46(4,-7.662) 47(4.5,-7.662) 48(5,-7.662) 49(5.5,-7.662) 50(6,-7.662) 76(6,7.662) 77(5.5,7.662) 78(5,7.662) 79(4.5,7.662) 80(4,7.662) 81(3.5,7.662) 82(3,7.662) 83(2.5,7.662) 84(2,7.662) 85(1.5,7.662) 86(1,7.662) 87(0.5,7.662) 88(0,7.662) 89(-0.5,7.662) 90(-1,7.662) 91(-1.5,7.662) 92(-2,7.662) 93(-2.5,7.662) 94(-3,7.662) 95(-3.5,7.662) 96(-4,7.662) 97(-4.5,7.662) 98(-5,7.662) 99(-5.5,7.662) 100(-6,7.662)
  round 0.5 hole 0.2: 101(-2.25,-2.25) 101(-2.25,-1.125) 101(-2.25,0) 101(-2.25,1.125) 101(-2.25,2.25) 101(-1.125,-2.25) 101(-1.125,-1.125) 101(-1.125,0) 101(-1.125,1.125) 101(-1.125,2.25) 101(0,-2.25) 101(0,-1.125) 101(0,0) 101(0,1.125) 101(0,2.25) 101(1.125,-2.25) 101(1.125,-1.125) 101(1.125,0) 101(1.125,1.125) 101(1.125,2.25) 101(2.25,-2.25) 101(2.25,-1.125) 101(2.25,0) 101(2.25,1.125) 101(2.25,2.25)
  rect 5x5 smd: 101(0,0)
  rect 5x5 smd far side: 101(0,0)
  rrect25% 1.01x1.01 on Top Paste: Un1(-1.875,1.875) Un2(-1.875,0.625) Un3(-1.875,-0.625) Un4(-1.875,-1.875) Un5(-0.625,1.875) Un6(-0.625,0.625) Un7(-0.625,-0.625) Un8(-0.625,-1.875) Un9(0.625,1.875) Un10(0.625,0.625) Un11(0.625,-0.625) Un12(0.625,-1.875) Un13(1.875,1.875) Un14(1.875,0.625) Un15(1.875,-0.625) Un16(1.875,-1.875)
F.SilkS:
  region: -7.7,6.41 -8.04,6.88 -7.36,6.88
  lines w0.254: -7.11,-6.41 -7.11,-7.11 -6.41,-7.11 ; -7.11,6.41 -7.11,7.11 -6.41,7.11 ; 6.41,-7.11 7.11,-7.11 7.11,-6.41 ; 6.41,7.11 7.11,7.11 7.11,6.41
Top Assembly:
  lines w0.254: -7,-7 7,-7 7,7 -6,7 -7,6 -7,-7
  text "'.Designator'" at -4.047,-0.84 h1
Top Courtyard:
  lines w0.254: -8.65,-6.4 -7.25,-6.4 -7.25,-7.25 -6.4,-7.25 -6.4,-8.65 6.4,-8.65 6.4,-7.25 7.25,-7.25 7.25,-6.4 8.65,-6.4 8.65,6.4 7.25,6.4 7.25,7.25 6.4,7.25 6.4,8.65 -6.4,8.65 -6.4,7.25 -7.25,7.25 -7.25,6.4 -8.65,6.4 -8.65,-6.4
Top Designator:
  text ".Designator" at -7.618,-0.508 h1.52

## TQFP-100_12x12mm_P0.4mm [mm]
pads (100):
  rrect25% 1.475x0.2 smd: 1(-6.662,4.8) 2(-6.662,4.4) 3(-6.662,4) 4(-6.662,3.6) 5(-6.662,3.2) 6(-6.662,2.8) 7(-6.662,2.4) 8(-6.662,2) 9(-6.662,1.6) 10(-6.662,1.2) 11(-6.662,0.8) 12(-6.662,0.4) 13(-6.662,0) 14(-6.662,-0.4) 15(-6.662,-0.8) 16(-6.662,-1.2) 17(-6.662,-1.6) 18(-6.662,-2) 19(-6.662,-2.4) 20(-6.662,-2.8) 21(-6.662,-3.2) 22(-6.662,-3.6) 23(-6.662,-4) 24(-6.662,-4.4) 25(-6.662,-4.8) 51(6.662,-4.8) 52(6.662,-4.4) 53(6.662,-4) 54(6.662,-3.6) 55(6.662,-3.2) 56(6.662,-2.8) 57(6.662,-2.4) 58(6.662,-2) 59(6.662,-1.6) 60(6.662,-1.2) 61(6.662,-0.8) 62(6.662,-0.4) 63(6.662,0) 64(6.662,0.4) 65(6.662,0.8) 66(6.662,1.2) 67(6.662,1.6) 68(6.662,2) 69(6.662,2.4) 70(6.662,2.8) 71(6.662,3.2) 72(6.662,3.6) 73(6.662,4) 74(6.662,4.4) 75(6.662,4.8)
  rrect25% 0.2x1.475 smd: 26(-4.8,-6.662) 27(-4.4,-6.662) 28(-4,-6.662) 29(-3.6,-6.662) 30(-3.2,-6.662) 31(-2.8,-6.662) 32(-2.4,-6.662) 33(-2,-6.662) 34(-1.6,-6.662) 35(-1.2,-6.662) 36(-0.8,-6.662) 37(-0.4,-6.662) 38(0,-6.662) 39(0.4,-6.662) 40(0.8,-6.662) 41(1.2,-6.662) 42(1.6,-6.662) 43(2,-6.662) 44(2.4,-6.662) 45(2.8,-6.662) 46(3.2,-6.662) 47(3.6,-6.662) 48(4,-6.662) 49(4.4,-6.662) 50(4.8,-6.662) 76(4.8,6.662) 77(4.4,6.662) 78(4,6.662) 79(3.6,6.662) 80(3.2,6.662) 81(2.8,6.662) 82(2.4,6.662) 83(2,6.662) 84(1.6,6.662) 85(1.2,6.662) 86(0.8,6.662) 87(0.4,6.662) 88(0,6.662) 89(-0.4,6.662) 90(-0.8,6.662) 91(-1.2,6.662) 92(-1.6,6.662) 93(-2,6.662) 94(-2.4,6.662) 95(-2.8,6.662) 96(-3.2,6.662) 97(-3.6,6.662) 98(-4,6.662) 99(-4.4,6.662) 100(-4.8,6.662)
F.SilkS:
  region: -6.7,5.16 -7.04,5.63 -6.36,5.63
  lines w0.254: -6.11,-5.16 -6.11,-6.11 -5.16,-6.11 ; -6.11,5.16 -6.11,6.11 -5.16,6.11 ; 5.16,-6.11 6.11,-6.11 6.11,-5.16 ; 5.16,6.11 6.11,6.11 6.11,5.16
Top Assembly:
  lines w0.254: -6,-6 6,-6 6,6 -5,6 -6,5 -6,-6
  text "'.Designator'" at -4.047,-0.84 h1
Top Courtyard:
  lines w0.254: -7.65,-5.15 -6.25,-5.15 -6.25,-6.25 -5.15,-6.25 -5.15,-7.65 5.15,-7.65 5.15,-6.25 6.25,-6.25 6.25,-5.15 7.65,-5.15 7.65,5.15 6.25,5.15 6.25,6.25 5.15,6.25 5.15,7.65 -5.15,7.65 -5.15,6.25 -6.25,6.25 -6.25,5.15 -7.65,5.15 -7.65,-5.15
Top Designator:
  text ".Designator" at -7.618,-0.508 h1.52

## TQFP-100_14x14mm_P0.5mm [mm]
pads (100):
  rrect25% 1.475x0.3 smd: 1(-7.662,6) 2(-7.662,5.5) 3(-7.662,5) 4(-7.662,4.5) 5(-7.662,4) 6(-7.662,3.5) 7(-7.662,3) 8(-7.662,2.5) 9(-7.662,2) 10(-7.662,1.5) 11(-7.662,1) 12(-7.662,0.5) 13(-7.662,0) 14(-7.662,-0.5) 15(-7.662,-1) 16(-7.662,-1.5) 17(-7.662,-2) 18(-7.662,-2.5) 19(-7.662,-3) 20(-7.662,-3.5) 21(-7.662,-4) 22(-7.662,-4.5) 23(-7.662,-5) 24(-7.662,-5.5) 25(-7.662,-6) 51(7.662,-6) 52(7.662,-5.5) 53(7.662,-5) 54(7.662,-4.5) 55(7.662,-4) 56(7.662,-3.5) 57(7.662,-3) 58(7.662,-2.5) 59(7.662,-2) 60(7.662,-1.5) 61(7.662,-1) 62(7.662,-0.5) 63(7.662,0) 64(7.662,0.5) 65(7.662,1) 66(7.662,1.5) 67(7.662,2) 68(7.662,2.5) 69(7.662,3) 70(7.662,3.5) 71(7.662,4) 72(7.662,4.5) 73(7.662,5) 74(7.662,5.5) 75(7.662,6)
  rrect25% 0.3x1.475 smd: 26(-6,-7.662) 27(-5.5,-7.662) 28(-5,-7.662) 29(-4.5,-7.662) 30(-4,-7.662) 31(-3.5,-7.662) 32(-3,-7.662) 33(-2.5,-7.662) 34(-2,-7.662) 35(-1.5,-7.662) 36(-1,-7.662) 37(-0.5,-7.662) 38(0,-7.662) 39(0.5,-7.662) 40(1,-7.662) 41(1.5,-7.662) 42(2,-7.662) 43(2.5,-7.662) 44(3,-7.662) 45(3.5,-7.662) 46(4,-7.662) 47(4.5,-7.662) 48(5,-7.662) 49(5.5,-7.662) 50(6,-7.662) 76(6,7.662) 77(5.5,7.662) 78(5,7.662) 79(4.5,7.662) 80(4,7.662) 81(3.5,7.662) 82(3,7.662) 83(2.5,7.662) 84(2,7.662) 85(1.5,7.662) 86(1,7.662) 87(0.5,7.662) 88(0,7.662) 89(-0.5,7.662) 90(-1,7.662) 91(-1.5,7.662) 92(-2,7.662) 93(-2.5,7.662) 94(-3,7.662) 95(-3.5,7.662) 96(-4,7.662) 97(-4.5,7.662) 98(-5,7.662) 99(-5.5,7.662) 100(-6,7.662)
F.SilkS:
  region: -7.7,6.41 -8.04,6.88 -7.36,6.88
  lines w0.254: -7.11,-6.41 -7.11,-7.11 -6.41,-7.11 ; -7.11,6.41 -7.11,7.11 -6.41,7.11 ; 6.41,-7.11 7.11,-7.11 7.11,-6.41 ; 6.41,7.11 7.11,7.11 7.11,6.41
Top Assembly:
  lines w0.254: -7,-7 7,-7 7,7 -6,7 -7,6 -7,-7
  text "'.Designator'" at -4.047,-0.84 h1
Top Courtyard:
  lines w0.254: -8.65,-6.4 -7.25,-6.4 -7.25,-7.25 -6.4,-7.25 -6.4,-8.65 6.4,-8.65 6.4,-7.25 7.25,-7.25 7.25,-6.4 8.65,-6.4 8.65,6.4 7.25,6.4 7.25,7.25 6.4,7.25 6.4,8.65 -6.4,8.65 -6.4,7.25 -7.25,7.25 -7.25,6.4 -8.65,6.4 -8.65,-6.4
Top Designator:
  text ".Designator" at -7.618,-0.508 h1.52

## TQFP-120_14x14mm_P0.4mm [mm]
pads (120):
  rect 1x0.23 smd: 1(-7.7,5.8) 2(-7.7,5.4) 3(-7.7,5) 4(-7.7,4.6) 5(-7.7,4.2) 6(-7.7,3.8) 7(-7.7,3.4) 8(-7.7,3) 9(-7.7,2.6) 10(-7.7,2.2) 11(-7.7,1.8) 12(-7.7,1.4) 13(-7.7,1) 14(-7.7,0.6) 15(-7.7,0.2) 16(-7.7,-0.2) 17(-7.7,-0.6) 18(-7.7,-1) 19(-7.7,-1.4) 20(-7.7,-1.8) 21(-7.7,-2.2) 22(-7.7,-2.6) 23(-7.7,-3) 24(-7.7,-3.4) 25(-7.7,-3.8) 26(-7.7,-4.2) 27(-7.7,-4.6) 28(-7.7,-5) 29(-7.7,-5.4) 30(-7.7,-5.8) 61(7.7,-5.8) 62(7.7,-5.4) 63(7.7,-5) 64(7.7,-4.6) 65(7.7,-4.2) 66(7.7,-3.8) 67(7.7,-3.4) 68(7.7,-3) 69(7.7,-2.6) 70(7.7,-2.2) 71(7.7,-1.8) 72(7.7,-1.4) 73(7.7,-1) 74(7.7,-0.6) 75(7.7,-0.2) 76(7.7,0.2) 77(7.7,0.6) 78(7.7,1) 79(7.7,1.4) 80(7.7,1.8) 81(7.7,2.2) 82(7.7,2.6) 83(7.7,3) 84(7.7,3.4) 85(7.7,3.8) 86(7.7,4.2) 87(7.7,4.6) 88(7.7,5) 89(7.7,5.4) 90(7.7,5.8)
  rect 0.23x1 smd: 31(-5.8,-7.7) 32(-5.4,-7.7) 33(-5,-7.7) 34(-4.6,-7.7) 35(-4.2,-7.7) 36(-3.8,-7.7) 37(-3.4,-7.7) 38(-3,-7.7) 39(-2.6,-7.7) 40(-2.2,-7.7) 41(-1.8,-7.7) 42(-1.4,-7.7) 43(-1,-7.7) 44(-0.6,-7.7) 45(-0.2,-7.7) 46(0.2,-7.7) 47(0.6,-7.7) 48(1,-7.7) 49(1.4,-7.7) 50(1.8,-7.7) 51(2.2,-7.7) 52(2.6,-7.7) 53(3,-7.7) 54(3.4,-7.7) 55(3.8,-7.7) 56(4.2,-7.7) 57(4.6,-7.7) 58(5,-7.7) 59(5.4,-7.7) 60(5.8,-7.7) 91(5.8,7.7) 92(5.4,7.7) 93(5,7.7) 94(4.6,7.7) 95(4.2,7.7) 96(3.8,7.7) 97(3.4,7.7) 98(3,7.7) 99(2.6,7.7) 100(2.2,7.7) 101(1.8,7.7) 102(1.4,7.7) 103(1,7.7) 104(0.6,7.7) 105(0.2,7.7) 106(-0.2,7.7) 107(-0.6,7.7) 108(-1,7.7) 109(-1.4,7.7) 110(-1.8,7.7) 111(-2.2,7.7) 112(-2.6,7.7) 113(-3,7.7) 114(-3.4,7.7) 115(-3.8,7.7) 116(-4.2,7.7) 117(-4.6,7.7) 118(-5,7.7) 119(-5.4,7.7) 120(-5.8,7.7)
F.SilkS:
  region: -7.76,6.18 -8.1,6.65 -7.42,6.65
  lines w0.254: -7.125,-6.14 -7.125,-7.125 -6.14,-7.125 ; -7.125,6.225 -7.125,7.125 -6.14,7.125 ; 6.14,-7.125 7.125,-7.125 7.125,-6.14 ; 6.14,7.125 7.125,7.125 7.125,6.14
Top Assembly:
  lines w0.254: -7,-7 7,-7 7,7 -6,7 -7,6 -7,-7
  text "'.Designator'" at -4.047,-0.84 h1
Top Courtyard:
  lines w0.254: -8.45,-8.45 8.45,-8.45 8.45,8.45 -8.45,8.45 -8.45,-8.45
Top Designator:
  text ".Designator" at -7.618,-0.508 h1.52

## TQFP-128_14x14mm_P0.4mm [mm]
pads (128):
  rect 1x0.23 smd: 1(-7.7,6.2) 2(-7.7,5.8) 3(-7.7,5.4) 4(-7.7,5) 5(-7.7,4.6) 6(-7.7,4.2) 7(-7.7,3.8) 8(-7.7,3.4) 9(-7.7,3) 10(-7.7,2.6) 11(-7.7,2.2) 12(-7.7,1.8) 13(-7.7,1.4) 14(-7.7,1) 15(-7.7,0.6) 16(-7.7,0.2) 17(-7.7,-0.2) 18(-7.7,-0.6) 19(-7.7,-1) 20(-7.7,-1.4) 21(-7.7,-1.8) 22(-7.7,-2.2) 23(-7.7,-2.6) 24(-7.7,-3) 25(-7.7,-3.4) 26(-7.7,-3.8) 27(-7.7,-4.2) 28(-7.7,-4.6) 29(-7.7,-5) 30(-7.7,-5.4) 31(-7.7,-5.8) 32(-7.7,-6.2) 65(7.7,-6.2) 66(7.7,-5.8) 67(7.7,-5.4) 68(7.7,-5) 69(7.7,-4.6) 70(7.7,-4.2) 71(7.7,-3.8) 72(7.7,-3.4) 73(7.7,-3) 74(7.7,-2.6) 75(7.7,-2.2) 76(7.7,-1.8) 77(7.7,-1.4) 78(7.7,-1) 79(7.7,-0.6) 80(7.7,-0.2) 81(7.7,0.2) 82(7.7,0.6) 83(7.7,1) 84(7.7,1.4) 85(7.7,1.8) 86(7.7,2.2) 87(7.7,2.6) 88(7.7,3) 89(7.7,3.4) 90(7.7,3.8) 91(7.7,4.2) 92(7.7,4.6) 93(7.7,5) 94(7.7,5.4) 95(7.7,5.8) 96(7.7,6.2)
  rect 0.23x1 smd: 33(-6.2,-7.7) 34(-5.8,-7.7) 35(-5.4,-7.7) 36(-5,-7.7) 37(-4.6,-7.7) 38(-4.2,-7.7) 39(-3.8,-7.7) 40(-3.4,-7.7) 41(-3,-7.7) 42(-2.6,-7.7) 43(-2.2,-7.7) 44(-1.8,-7.7) 45(-1.4,-7.7) 46(-1,-7.7) 47(-0.6,-7.7) 48(-0.2,-7.7) 49(0.2,-7.7) 50(0.6,-7.7) 51(1,-7.7) 52(1.4,-7.7) 53(1.8,-7.7) 54(2.2,-7.7) 55(2.6,-7.7) 56(3,-7.7) 57(3.4,-7.7) 58(3.8,-7.7) 59(4.2,-7.7) 60(4.6,-7.7) 61(5,-7.7) 62(5.4,-7.7) 63(5.8,-7.7) 64(6.2,-7.7) 97(6.2,7.7) 98(5.8,7.7) 99(5.4,7.7) 100(5,7.7) 101(4.6,7.7) 102(4.2,7.7) 103(3.8,7.7) 104(3.4,7.7) 105(3,7.7) 106(2.6,7.7) 107(2.2,7.7) 108(1.8,7.7) 109(1.4,7.7) 110(1,7.7) 111(0.6,7.7) 112(0.2,7.7) 113(-0.2,7.7) 114(-0.6,7.7) 115(-1,7.7) 116(-1.4,7.7) 117(-1.8,7.7) 118(-2.2,7.7) 119(-2.6,7.7) 120(-3,7.7) 121(-3.4,7.7) 122(-3.8,7.7) 123(-4.2,7.7) 124(-4.6,7.7) 125(-5,7.7) 126(-5.4,7.7) 127(-5.8,7.7) 128(-6.2,7.7)
F.SilkS:
  region: -7.76,6.58 -8.1,7.05 -7.42,7.05
  lines w0.254: -7.125,-6.54 -7.125,-7.125 -6.54,-7.125 ; -7.125,6.625 -7.125,7.125 -6.54,7.125 ; 6.54,-7.125 7.125,-7.125 7.125,-6.54 ; 6.54,7.125 7.125,7.125 7.125,6.54
Top Assembly:
  lines w0.254: -7,-7 7,-7 7,7 -6,7 -7,6 -7,-7
  text "'.Designator'" at -4.047,-0.84 h1
Top Courtyard:
  lines w0.254: -8.45,-8.45 8.45,-8.45 8.45,8.45 -8.45,8.45 -8.45,-8.45
Top Designator:
  text ".Designator" at -7.618,-0.508 h1.52